# Altium footprint library QFN-21(4.0X5.0).PcbLib: 1 footprints
Each footprint in its own frame and in the unit in brackets; x right, y up, seen from the top. Pads: shape width x height; smd on the part's side, far side on the other; paste and mask are expansions set on the pad; w line width, h text height; cw(c..) or ccw(c..) is an arc to the next point about the centre after c.
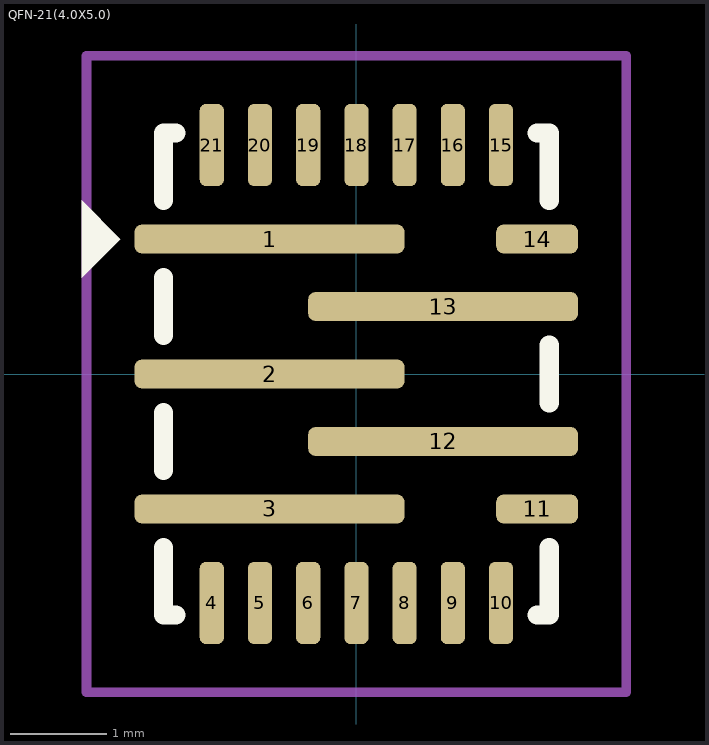
[diagram p0: the footprint, top view; thin cyan lines are the x and y axes]

## QFN-21(4.0X5.0) [mm]
pads (21):
  rrect50% 2.8x0.3 smd: 1(-0.9,1.4) 2(-0.9,0) 3(-0.9,-1.4) 12(0.9,-0.7) 13(0.9,0.7)
  rrect50% 0.25x0.85 smd: 4(-1.5,-2.375) 5(-1,-2.375) 6(-0.5,-2.375) 7(0,-2.375) 8(0.5,-2.375) 9(1,-2.375) 10(1.5,-2.375) 15(1.5,2.375) 16(1,2.375) 17(0.5,2.375) 18(0,2.375) 19(-0.5,2.375) 20(-1,2.375) 21(-1.5,2.375)
  rrect50% 0.85x0.3 smd: 11(1.875,-1.4) 14(1.875,1.4)
Top Overlay:
  region: -2.85,1 -2.85,1.8 -2.45,1.4
  lines w0.2: -2,-1.8 -2,-2.5 -1.875,-2.5 ; -2,-1 -2,-0.4 ; -2,0.4 -2,1 ; -2,1.8 -2,2.5 -1.875,2.5 ; 1.875,-2.5 2,-2.5 2,-1.8 ; 1.875,2.5 2,2.5 2,1.8 ; 2,-0.3 2,0.3
Top Courtyard:
  lines w0.1: -2.8,-3.3 -2.8,3.3 2.8,3.3 2.8,-3.3 -2.8,-3.3
3D body "MP4245GVE.step": height 0.9, standoff 0.05, extent -2,-2.5 2,2.5